# Altium integrated library Discrete.IntLib: 54 symbols
Pins are listed as number, name and electrical type; pins without a type are passive.

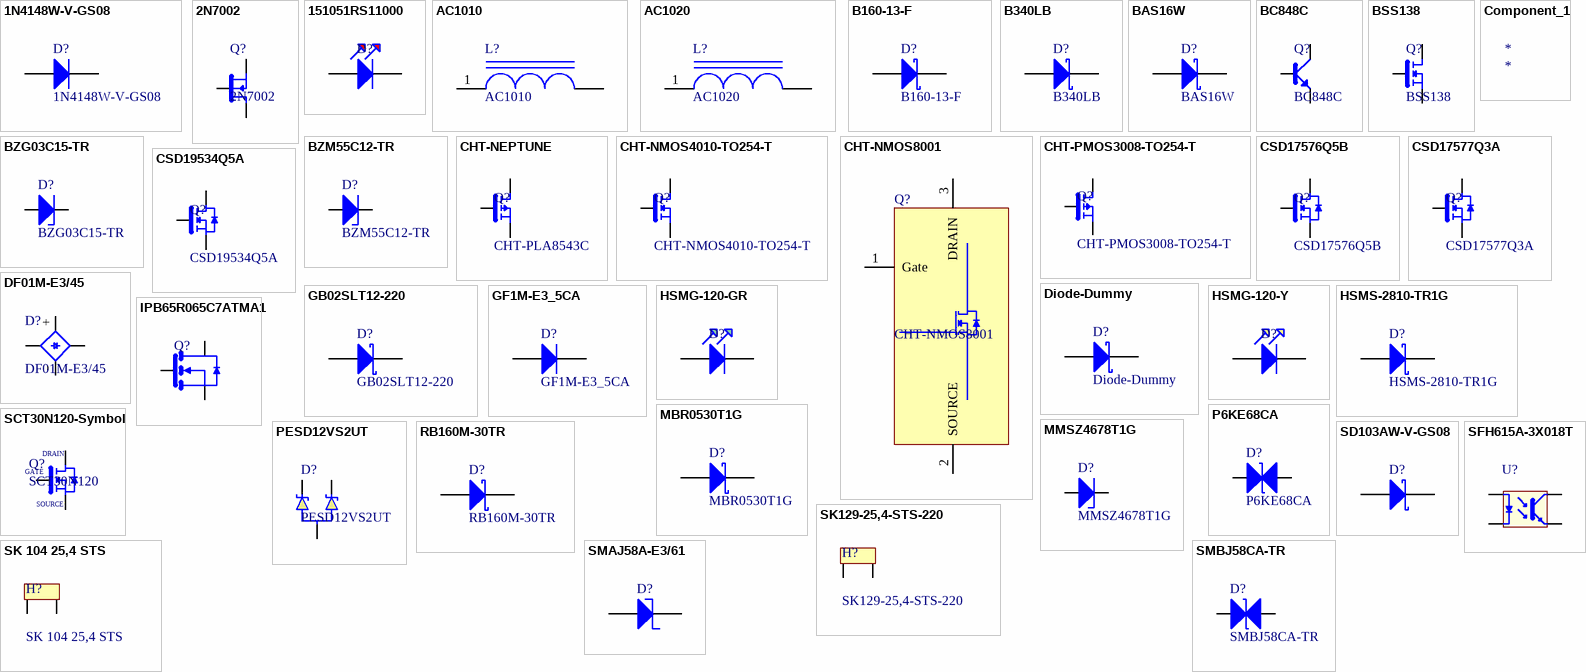
[diagram p0: symbols 1N4148W-V-GS08 to SMBJ58CA-TR]

## 1N4148W-V-GS08
designator D?
Diode generic, 150mA, 100V; Deliverer PartNr: 1859691RL; Manufacturer: Vishay; TDE-PN: DIS0016; Deliverer: Farnell; Published: 29.04.2014; Publisher: Sebastian Kulik; PackageDescription: SOD123; Manufacturer PartNr: 1N4148W-V-GS08
footprint SOD123
simulation model 18TQ045 (DIODE)
pins: 1 K, 2 A

## 2N7002
designator Q?
MOSFET, 60V, 300mA; Deliverer PartNr: 1510761; Manufacturer: NXP; TDE-PN: DIS0001; Deliverer: Farnell; Published: 12.03.2014; Publisher: Sebastian Kulik; PackageDescription: SOT23_N; Manufacturer PartNr: 2N7002
footprint SOT23_N (SOT23, 3-Leads, Body 2.9x1.3mm, Pitch 0.95mm, Lead Span 2.3mm - Reverse Pinning, IPC Medium Density)
pins: 1 Drain, 2 Source, 3 Gate

## 151051RS11000
designator D?  (value not drawn)
LED, 5mm, red, THT; TDE-PN: DIS0029; Deliverer: WE; Published: 04.11.2014; Publisher: Sebastian Kulik; PackageDescription: LED2X5; Manufacturer PartNr: 151051RS11000; Deliverer PartNr: 151051RS11000; Manufacturer: WE
footprint LED2X5
simulation model 18TQ045 (DIODE)
pins: A, K

## AC1010
designator L?
Current transformer; Manufacturer PartNr: AC-1010; Deliverer PartNr: 1707836; Manufacturer: Acme Electric; TDE-PN: DIS0027; Deliverer: Farnell; Published: 24.10.2014; Publisher: Sebastian Kulik; PackageDescription: AC1010
footprint AC1010
pins: 1, 2

## AC1020
designator L?
Current transformer; Manufacturer PartNr: AC-1020; Deliverer PartNr: 1707839; Manufacturer: Acme Electric; TDE-PN: DIS0028; Deliverer: Farnell; Published: 28.10.2014; Publisher: Sebastian Kulik; PackageDescription: AC1010
footprint AC1010
pins: 1, 2

## B160-13-F
designator D?
Diode shottky, 60V, 1A; Deliverer PartNr: 1843674; Manufacturer: Diotec Inc; TDE-PN: DIS0002; Deliverer: Farnell; Published: 12.03.2014; Publisher: Sebastian Kulik; PackageDescription: SMA; Manufacturer PartNr: B160-13-F
footprint SMA (Diode; 2 Leads)
simulation model 18TQ045 (DIODE)
pins: 1 K, 2 A

## B340LB
designator D?
Diode Shottky, 40V, 30A; Manufacturer PartNr: B340LB-13-F; Deliverer PartNr: 1843684; Manufacturer: Diotec Inc; TDE-PN: DIS0003; Deliverer: Farnell; Published: 12.03.2014; Publisher: Sebastian Kulik; PackageDescription: SMB
footprint SMB-DIODE (Diode; 2 Leads)
simulation model 18TQ045 (DIODE)
pins: 1 K, 2 A

## BAS16W
designator D?
Diode, 85V, 4A; Deliverer PartNr: 1081181; Manufacturer: NXP; TDE-PN: DIS0004; Deliverer: Farnell; Published: 12.03.2014; Publisher: Sebastian Kulik; PackageDescription: SOT23_N; Manufacturer PartNr: BAS16W
footprint SOT23_N (SOT23, 3-Leads, Body 2.9x1.3mm, Pitch 0.95mm, Lead Span 2.3mm - Reverse Pinning, IPC Medium Density)
simulation model 18TQ045 (DIODE)
pins: 1 K, 3 A

## BC848C
designator Q?
NPN, 30V, 100mA; Deliverer PartNr: 9846670; Manufacturer: Fairchild; TDE-PN: DIS0015; Deliverer: Farnell; Published: 29.04.2014; Publisher: Sebastian Kulik; PackageDescription: SOT23_N; Manufacturer PartNr: BC848C
footprint SOT23_N (SOT23, 3-Leads, Body 2.9x1.3mm, Pitch 0.95mm, Lead Span 2.3mm - Reverse Pinning, IPC Medium Density)
pins: 1 Collector, 2 Emitter, 3 Base

## BSS138
designator Q?
N-FET, 50V, 220mA; Deliverer PartNr: 2323154; Manufacturer: Fairchild; TDE-PN: DIS0022; Deliverer: Farnell; Published: 17.05.2014; Publisher: Sebastian Kulik; PackageDescription: SOT23; Manufacturer PartNr: BSS138
footprint SOT23_N (SOT23, 3-Leads, Body 2.9x1.3mm, Pitch 0.95mm, Lead Span 2.3mm - Reverse Pinning, IPC Medium Density)
pins: 1 Drain, 2 Source, 3 Gate

## BZG03C15-TR
designator D?
Z-Diode, 15V 1.25W; Deliverer PartNr: 1612389; Manufacturer: Vishay; TDE-PN: DIS0018; Deliverer: Farnell; Published: 29.04.2014; Publisher: Sebastian Kulik; PackageDescription: DO214BA; Manufacturer PartNr: BZG03C15-TR
footprint DO214BA (Diode; 2 Leads)
simulation model 18TQ045 (DIODE)
pins: 1 K, 2 A

## BZM55C12-TR
designator D?
Z-Diode, 12V 500mW; Deliverer PartNr: 1617751RL; Manufacturer: Vishay; TDE-PN: DIS0021; Deliverer: Farnell; Published: 15.05.2014; Publisher: Sebastian Kulik; PackageDescription: Diode MELF; Manufacturer PartNr: BZM55C12-TR
footprint Diode-MELF (Diode, MELF)
simulation model 18TQ045 (DIODE)
pins: 1 K, 2 A

## CHT-NEPTUNE
designator Q?, comment CHT-PLA8543C
N-FET, 1200V@10A, Neptune series; Manufacturer PartNr: CHT-PLA8543C-TO257-T; TDE-PN: DIS0053; Deliverer: CISSOID; Published: 19.09.2016; Publisher: Sebastian Kulik; PackageDescription: TO257; Deliverer PartNr: CHT-PLA8543C-TO257-T; Manufacturer: CISSOID; Price: 416.62
footprint TO257-HT (TO, Thru-Hole, Vertical, Heatsink Mounted; 3 In-Line Leads; Pitch 2.54 mm; Pin sequence 1, 3, 2)
pins: 1 Drain, 2 Source, 3 Gate

## CHT-NMOS4010-TO254-T
designator Q?
N-FET, 40V@ 10A, Saturn series; Manufacturer: CISSOID; TDE-PN: DIS0043; Deliverer: Future; Published: 09.12.2015; Publisher: Sebastian Kulik; PackageDescription: TO254; Manufacturer PartNr: CHT-NMOS4010-TO254-T; Deliverer PartNr: CHT-NMOS4010-TO254-T; Price: 408.62
footprint TO254
pins: Drain, Gate, Source

## CHT-NMOS8001
designator Q?
Comparator, Hi-Temp, 25MHz; Deliverer: CISSOID; TDE-PN: DIS0052; Published: 13.09.2016; Deliverer PartNr: CHT-NMOS8001; PackageDescription: DIP16; Publisher: Sebastian Kulik; Manufacturer PartNr: CHT-NMOS8001; Manufacturer: CISSOID; Price: 204.93/5
footprint TDFP16 - NMOS8001 (TDFP16)
pins: 1 Gate, 2 SOURCE, 3 DRAIN (power)

## CHT-PMOS3008-TO254-T
designator Q?
P-FET, 30V@ 8A, Venus series; Manufacturer: CISSOID; TDE-PN: DIS0048; Deliverer: Future; Published: 11.05.2016; Publisher: Sebastian Kulik; PackageDescription: TO254; Manufacturer PartNr: CHT-PMOS3008-TO254-T; Deliverer PartNr: CHT-PMOS3008-TO254-T; Price: 416.62
footprint TO254
pins: Drain, Gate, Source

## Component_1
designator *

## CSD17576Q5B
designator Q?
N-HexFET, 30V@ 100A; Deliverer PartNr: 827-4864P; Manufacturer: TI; TDE-PN: DIS0037; Deliverer: RS-Components; Published: 04.11.2015; Publisher: Sebastian Kulik; PackageDescription: Q5B; Manufacturer PartNr: CSD17576Q5B
footprint Q5B (Q5B-TI)
pins: 1 Drain, 2 Source, 3 Gate

## CSD17577Q3A
designator Q?
NexFET, 30V, 83A; Manufacturer: TI; TDE-PN: DIS0032; Deliverer: EBV; Published: 08.11.2014; Publisher: Sebastian Kulik; PackageDescription: SON3x3; Manufacturer PartNr: CSD17577Q3A; Deliverer PartNr: CSD17577Q3A
footprint SON3X3
pins: 1 Drain, 2 Source, 3 Gate

## CSD19534Q5A
designator Q?
N-NexFET, 100V@ 50A; Deliverer PartNr: 827-4896; Manufacturer: TI; TDE-PN: DIS0045; Deliverer: RS-Components; Published: 04.11.2015; Publisher: Sebastian Kulik; PackageDescription: Q5B; Manufacturer PartNr: CSD19534Q5A
footprint Q5A (Q5A-TI)
pins: 1 Drain, 2 Source, 3 Gate

## DF01M-E3/45
designator D?
Rectifier, 100V, 1A; Manufacturer PartNr: P6KE68CA; Deliverer PartNr: 2101159; Manufacturer: Vishay; TDE-PN: DIS0031; Deliverer: Farnell; Published: 05.11.2014; Publisher: Sebastian Kulik; PackageDescription: RECTIFIER
footprint RECTIFIER
simulation model 18TQ045 (DIODE)
pins: +, -, ~1, ~2

## Diode-Dummy
designator D?
Published: 09.12.2015; TDE-PN: -; Publisher: Sebastian Kulik; PackageDescription: -; Manufacturer PartNr: -; Deliverer: -; Deliverer PartNr: -; Manufacturer: -
footprint DO-15-Dummy
simulation model 18TQ045 (DIODE)
pins: 1 K, 2 A

## GB02SLT12-220
designator D?
Diode Shottky, 1200V, 2A; Deliverer PartNr: 1862679; Manufacturer: GeneSic; TDE-PN: DIS0051; Deliverer: Farnell; Published: 11.07.2016; Publisher: Sebastian Kulik; PackageDescription: TO220AC; Manufacturer PartNr: GB02SLT12-220; Price: 4.26/1
footprint TO220AC (TO, Thru-Hole, Vertical, Heatsink Mounted; 2 In-Line Leads; Pitch 2.54 mm; Pin sequence 1,2)
simulation model 18TQ045 (DIODE)
pins: 1 K, 2 A

## GF1M-E3_5CA
designator D?
Diode fast recovery, 1A, 1kV; Manufacturer PartNr: GF1M-E3/5CA; Deliverer PartNr: 9549625RL; Manufacturer: Vishay; TDE-PN: DIS0017; Deliverer: Farnell; Published: 29.04.2014; Publisher: Sebastian Kulik; PackageDescription: DO214BA
footprint DO214BA (Diode; 2 Leads)
simulation model 18TQ045 (DIODE)
pins: 1 K, 2 A

## HSMG-120-GR
designator D?  (value not drawn)
LED, 90°, green; Manufacturer PartNr: HSMG-C120; Deliverer PartNr: 1058364; Manufacturer: Avago; TDE-PN: DIS0011; Deliverer: Farnell; Published: 18.02.2014; Publisher: Sebastian Kulik; PackageDescription: HSMA120G
footprint HSMA-120-G (GREEN)
simulation model 18TQ045 (DIODE)
pins: 1 K, 2 A

## HSMG-120-Y
designator D?  (value not drawn)
LED, 90°, yellow; Manufacturer PartNr: HSMG-C120; Deliverer PartNr: 1058355; Manufacturer: Avago; TDE-PN: DIS0012; Deliverer: Farnell; Published: 18.02.2014; Publisher: Sebastian Kulik; PackageDescription: HSMA120Y
footprint HSMA-120-OR (OR)
simulation model 18TQ045 (DIODE)
pins: 1 K, 2 A

## HSMS-2810-TR1G
designator D?
Shottky diode, 20V; Deliverer PartNr: 1056833RL; Manufacturer: Avago; TDE-PN: DIS0005; Deliverer: Farnell; Published: 12.03.2014; Publisher: Sebastian Kulik; PackageDescription: SOT23; Manufacturer PartNr: HSMS-2810-TR1G
footprint SOT23_N (SOT23, 3-Leads, Body 2.9x1.3mm, Pitch 0.95mm, Lead Span 2.3mm - Reverse Pinning, IPC Medium Density)
simulation model 18TQ045 (DIODE)
pins: 1 K, 3 A

## IPB65R065C7ATMA1
designator Q?  (value not drawn)
MOSFET, 0.065R; Manufacturer: Infenion; TDE-PN: DIS0013; Deliverer: EBV; Published: 28.04.2014; Publisher: Sebastian Kulik; PackageDescription: D2Pack; Manufacturer PartNr: IPB65R065C7ATMA1; Deliverer PartNr: IPB65R065C7ATMA1
footprint D2Pack
pins: 1 Gate, 2 Source, 3 Drain

## MBR0530T1G
designator D?
Diode Schottky,2A,40V; Deliverer PartNr: 2317649; Manufacturer: Rohm; TDE-PN: DIS0026; Deliverer: Farnell; Published: 30.06.2014; Publisher: Sebastian Kulik; PackageDescription: SOD123; Manufacturer PartNr: MBR0530T1G
footprint SOD123
simulation model 18TQ045 (DIODE)
pins: 1 K, 2 A

## MMSZ4678T1G
designator D?
Z-Diode, 1.8V,  0.5W; Deliverer PartNr: 1459115; Manufacturer: ON Semi; TDE-PN: DIS0034; Deliverer: Farnell; Published: 29.04.2014; Publisher: Sebastian Kulik; PackageDescription: SOD-123; Manufacturer PartNr: MMSZ4678T1G
footprint SOD123
simulation model 18TQ045 (DIODE)
pins: 1 K, 2 A

## P6KE68CA
designator D?
Transient voltage suppressor, 600W; Deliverer PartNr: 1017774; Manufacturer: Fairchild; TDE-PN: DIS0030; Deliverer: Farnell; Published: 05.11.2014; Publisher: Sebastian Kulik; PackageDescription: DO15; Manufacturer PartNr: P6KE68CA
footprint DO-15-TSV (TSV)
simulation model 18TQ045 (DIODE)
pins: 1 K, 2 A

## PESD12VS2UT
designator D?
EDS diode(s); Deliverer PartNr: 8737401; Manufacturer: NXP; TDE-PN: DIS0035; Deliverer: Farnell; Published: 05.12.2014; Publisher: Sebastian Kulik; PackageDescription: SOT23; Manufacturer PartNr: PESD12VS2UT
footprint SOT23_N (SOT23, 3-Leads, Body 2.9x1.3mm, Pitch 0.95mm, Lead Span 2.3mm - Reverse Pinning, IPC Medium Density)
simulation model 18TQ045 (DIODE)
pins: 1 A, 2 K2, 3 K1

## RB160M-30TR
designator D?
Diode Schottky,2A,40V; Deliverer PartNr: 1525480; Manufacturer: Rohm; TDE-PN: DIS0010; Deliverer: Farnell; Published: 17.02.2014; Publisher: Sebastian Kulik; PackageDescription: SOD123; Manufacturer PartNr: RB160M-30TR
footprint SOD123
simulation model 18TQ045 (DIODE)
pins: 1 K, 2 A

## SCT30N120-Symbol
designator Q?, comment SCT30N120
pins: 1 Drain, 2 Source, 3 Gate
text: DRAIN; GATE; SOURCE

## SD103AW-V-GS08
designator D?  (value not drawn)
Diode Schottky,2A,40V; Deliverer PartNr: 1617720RL; Manufacturer: Vishay; TDE-PN: DIS0008; Deliverer: Farnell; Published: 12.02.2014; Publisher: Sebastian Kulik; PackageDescription: SOD123; Manufacturer PartNr: SD103AW-V-GS08
footprint SOD123
simulation model 18TQ045 (DIODE)
pins: 1 K, 2 A

## SFH615A-3X018T
designator U?  (value not drawn)
Optocouppler; Manufacturer: Vishay; TDE-PN: DIS0014; Deliverer: EBV; Published: 28.04.2014; Publisher: Sebastian Kulik; PackageDescription: SFH615A; Manufacturer PartNr: SFH615A-3X018T; Deliverer PartNr: SFH615A-3X018T
footprint SFH615A (SFH615A-3X018T)
pins: 1 Anode, 2 Cathode, 3 Emitter, 4 Collector

## SK129-25,4-STS-220
designator H?
Heatsink, 6.5K/W, TO220; Deliverer PartNr: 189-8139; Manufacturer: Fischer Elektronik; TDE-PN: DIS0050; Deliverer: RS; Published: 11.05.2016; Publisher: Sebastian Kulik; PackageDescription: SK129-25,4-STS-220; Manufacturer PartNr: SK129-25,4-STS-220; Price: 1.82
footprint SK129-25,4-STS-220
pins: 1, 2

## SK 104 25,4 STS
designator H?
Heatsink, 17K/W, TO220; Deliverer PartNr: 189-8094; Manufacturer: Fischer Elektronik; TDE-PN: DIS0049; Deliverer: RS; Published: 11.05.2016; Publisher: Sebastian Kulik; PackageDescription: SK 104 25,4 STS; Manufacturer PartNr: SK 104 25,4 STS; Price: 1.82
footprint SK 104 25,4 STS
pins: 1, 2

## SMAJ58A-E3/61
designator D?  (value not drawn)
TVS, 400W, 58V; Deliverer PartNr: 1837053; Manufacturer: Vishay; TDE-PN: DIS0009; Deliverer: Farnell; Published: 17.02.2014; Publisher: Sebastian Kulik; PackageDescription: DO214AC; Manufacturer PartNr: SMAJ58A-E3/61
footprint DO214A (Diode; 2 Leads)
simulation model 18TQ045 (DIODE)
pins: 1 K, 2 A

## SMBJ58CA-TR
designator D?
Transient voltage suppressor, 600W; Deliverer PartNr: 9886346; Manufacturer: STMicro; TDE-PN: DIS0036; Deliverer: Farnell; Published: 22.01.2015; Publisher: Sebastian Kulik; PackageDescription: SMB; Manufacturer PartNr: SMBJ58CA-TR
footprint SMB (DO-214-AA/SMB; 2 C-Bend Leads; Body 5.3 x 3.6 mm, inc. leads (LxW))
simulation model 18TQ045 (DIODE)
pins: 1 K, 2 A

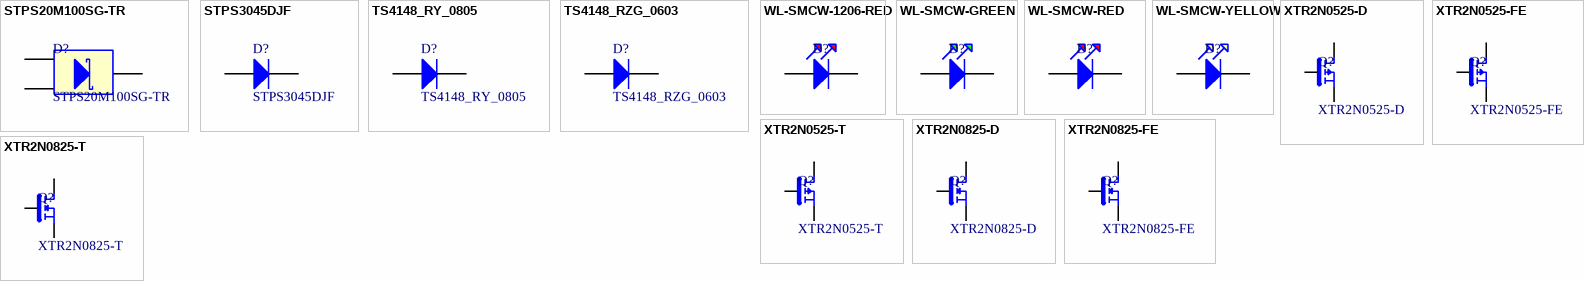
[diagram p1: symbols STPS20M100SG-TR to XTR2N0825-T]

## STPS20M100SG-TR
designator D?
Diode shottky, 100V, 20A; Deliverer PartNr: 880-5437; Manufacturer: STM; TDE-PN: DIS00046; Deliverer: RS; Published: 19.02.2016; Publisher: Sebastian Kulik; PackageDescription: D2PACK; Manufacturer PartNr: STPS20M100SG-TR
footprint D2Pack
simulation model 18TQ045 (DIODE)
pins: 1 A, 2 A, 3 K

## STPS3045DJF
designator D?
Diode fast recovery, 30A, 45V; Deliverer PartNr: 2325823; Manufacturer: STM; TDE-PN: DIS0038; Deliverer: Farnell; Published: 16.11.2015; Publisher: Sebastian Kulik; PackageDescription: DO214BA; Manufacturer PartNr: STPS3045DJF
footprint PowerFlat (6.15mmx5.20mm)
simulation model 18TQ045 (DIODE)
pins: 1 K, 2 A

## TS4148_RY_0805
designator D?
Diode generic, 150mA, 100V; Deliverer PartNr: 8150206RL; Manufacturer: Taiwan Semi; TDE-PN: DIS0020; Deliverer: Farnell; Published: 12.05.2014; Publisher: Sebastian Kulik; PackageDescription: DO0805; Manufacturer PartNr: TS4148_RY
footprint D0805 (Chip Diode, Body 2.0x1.3mm, IPC High Density)
simulation model 18TQ045 (DIODE)
pins: 1 K, 2 A

## TS4148_RZG_0603
designator D?
Diode generic, 150mA, 100V; Deliverer PartNr: 8150192RL; Manufacturer: Taiwan Semi; TDE-PN: DIS0019; Deliverer: Farnell; Published: 12.05.2014; Publisher: Sebastian Kulik; PackageDescription: DO0603; Manufacturer PartNr: TS4148_RZG
footprint D0603 (Chip Diode, 0603)
simulation model 18TQ045 (DIODE)
pins: 1 K, 2 A

## WL-SMCW-1206-RED
designator D?  (value not drawn)
LED, 0603, red; Manufacturer PartNr: CRCW080551R0FKEA; TDE-PN: DIS0033; Deliverer: WE; Published: 11.11.2014; Publisher: Sebastian Kulik; PackageDescription: D1206; Deliverer PartNr: CRCW080551R0FKEA; Manufacturer: WE
footprint D1206_N (Chip LED Body 3.2x2.5mm)
pins: 1 K, 2 A

## WL-SMCW-GREEN
designator D?  (value not drawn)
LED, 0603, green; Manufacturer PartNr: 150060GS75000; TDE-PN: DIS0024; Deliverer: WE; Published: 24.05.2014; Publisher: Sebastian Kulik; PackageDescription: WE-0603; Deliverer PartNr: 150060GS75000; Manufacturer: WE
footprint WE-0603 (Chip LED, 0603)
pins: 1 K, 2 A

## WL-SMCW-RED
designator D?  (value not drawn)
LED, 0603, red; Manufacturer PartNr: 150060RS75000; TDE-PN: DIS0023; Deliverer: WE; Published: 24.05.2014; Publisher: Sebastian Kulik; PackageDescription: WE-0603; Deliverer PartNr: 150060RS75000; Manufacturer: WE
footprint WE-0603 (Chip LED, 0603)
pins: 1 K, 2 A

## WL-SMCW-YELLOW
designator D?  (value not drawn)
LED, 0603, yellow; Manufacturer PartNr: 150060YS75000; TDE-PN: DIS0025; Deliverer: WE; Published: 24.05.2014; Publisher: Sebastian Kulik; PackageDescription: WE-0603; Deliverer PartNr: 150060YS75000; Manufacturer: WE
footprint WE-0603 (Chip LED, 0603)
pins: 1 K, 2 A

## XTR2N0525-D
designator Q?
P-FET, 50V@ 4A; Manufacturer: TI; TDE-PN: DIS0044; Deliverer: ProTEc; Published: 09.12.2015; Publisher: Sebastian Kulik; PackageDescription: DIP-8-Ceramic-HT; Manufacturer PartNr: XTR2N0525-D; Deliverer PartNr: XTR2N0525-D
footprint DIP-8-Ceramic-HT (DIP; 8 Leads; Row Spacing 7.62 mm; Pitch 2.54 mm)
pins: 1 Source, 4 Gate, 5 Drain

## XTR2N0525-FE
designator Q?
P-FET, 50V@ 4A; Manufacturer: TI; TDE-PN: DIS0040; Deliverer: ProTEc; Published: 08.12.2015; Publisher: Sebastian Kulik; PackageDescription: DFP8; Manufacturer PartNr: XTR2N0525-FE; Deliverer PartNr: XTR2N0525-FE
footprint DFP8
pins: 1 Drain, 2 Source, 3 Gate

## XTR2N0525-T
designator Q?
P-FET, 50V@ 4A; Manufacturer: TI; TDE-PN: DIS0041; Deliverer: ProTEc; Published: 08.12.2015; Publisher: Sebastian Kulik; PackageDescription: TO220V; Manufacturer PartNr: XTR2N0525-T; Deliverer PartNr: XTR2N0525-T
footprint TO220V (TO, Thru-Hole, Vertical, Heatsink Mounted; 3 In-Line Leads; Pitch 2.54 mm; Pin sequence 1, 3, 2)
pins: 1 Drain, 2 Source, 3 Gate

## XTR2N0825-D
designator Q?
N-FET, 80V@ 4A; Manufacturer: TI; TDE-PN: DIS0043; Deliverer: ProTEc; Published: 09.12.2015; Publisher: Sebastian Kulik; PackageDescription: DIP-8-Ceramic-HT; Manufacturer PartNr: XTR2N0825-D; Deliverer PartNr: XTR2N0825-D
footprint DIP-8-Ceramic-HT (DIP; 8 Leads; Row Spacing 7.62 mm; Pitch 2.54 mm)
pins: 1 Source, 4 Gate, 5 Drain

## XTR2N0825-FE
designator Q?
N-FET, 80V@ 4A; Manufacturer: TI; TDE-PN: DIS0039; Deliverer: ProTEc; Published: 08.12.2015; Publisher: Sebastian Kulik; PackageDescription: DFP8; Manufacturer PartNr: XTR2N0825-FE; Deliverer PartNr: XTR2N0825-FE
footprint DFP8
pins: 1 Drain, 2 Source, 3 Gate

## XTR2N0825-T
designator Q?
N-FET, 80V@ 4A; Manufacturer: TI; TDE-PN: DIS0040; Deliverer: ProTEc; Published: 08.12.2015; Publisher: Sebastian Kulik; PackageDescription: TO220V; Manufacturer PartNr: XTR2N0825-T; Deliverer PartNr: XTR2N0825-T
footprint TO220V (TO, Thru-Hole, Vertical, Heatsink Mounted; 3 In-Line Leads; Pitch 2.54 mm; Pin sequence 1, 3, 2)
pins: 1 Drain, 2 Source, 3 Gate